# Altium footprint library TL7660CDGKR.PcbLib: 3 footprints
Each footprint in its own frame and in the unit in brackets; x right, y up, seen from the top. Pads: shape width x height; smd on the part's side, far side on the other; paste and mask are expansions set on the pad; w line width, h text height; cw(c..) or ccw(c..) is an arc to the next point about the centre after c.
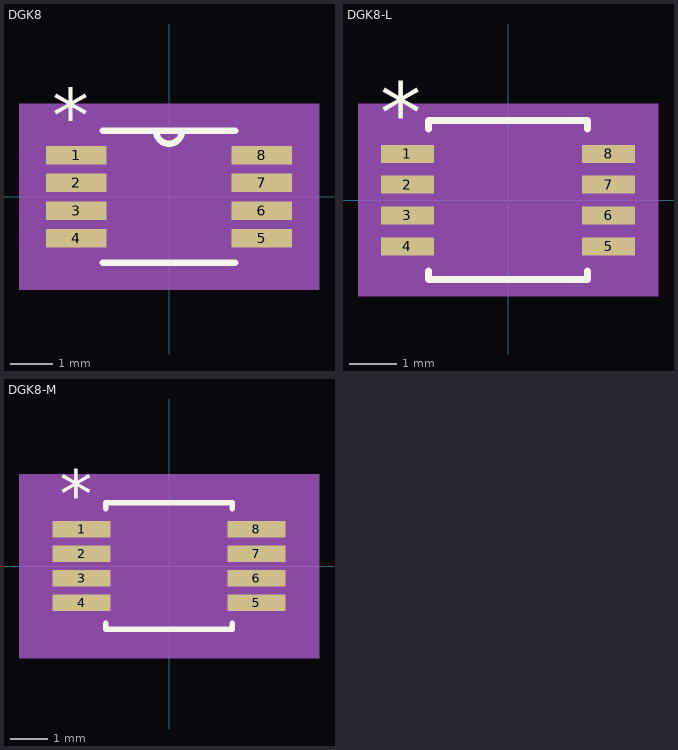
[diagram p0: the footprints below, top view; thin cyan lines are the x and y axes]

## DGK8 [mil]
pads (8):
  rect 56x17 smd: 1(-85.5,38.39) 2(-85.5,12.8) 3(-85.5,-12.8) 4(-85.5,-38.39) 5(85.5,-38.39) 6(85.5,-12.8) 7(85.5,12.8) 8(85.5,38.39)
Top Overlay:
  lines w6: -61,-61 61,-61 ; -61,61 61,61 ; -12,61 ccw(c0,61) 12,61
  text "*" at -108,50.39 h50
Mechanical 5:
  region: 138.5,-86 -138.5,-86 -138.5,86 138.5,86
Mechanical 13:
  lines w0: -12,61 ccw(c0,61) 12,61
  lines w1: -99.5,-45.89 -99.5,-30.89 -61,-30.89 -61,-45.89 -99.5,-45.89 ; -99.5,-20.3 -99.5,-5.3 -61,-5.3 -61,-20.3 -99.5,-20.3 ; -99.5,5.3 -99.5,20.3 -61,20.3 -61,5.3 -99.5,5.3 ; -99.5,30.89 -99.5,45.89 -61,45.89 -61,30.89 -99.5,30.89 ; -61,-61 61,-61 61,61 -61,61 -61,-61 ; 61,-45.89 61,-30.89 99.5,-30.89 99.5,-45.89 61,-45.89 ; 61,-20.3 61,-5.3 99.5,-5.3 99.5,-20.3 61,-20.3 ; 61,5.3 61,20.3 99.5,20.3 99.5,5.3 61,5.3 ; 61,30.89 61,45.89 99.5,45.89 99.5,30.89 61,30.89
  text "*" at -108,50.39 h50
Mechanical 15:
  region: 123.5,-71 -123.5,-71 -123.5,71 123.5,71
  lines w6: -123.5,-71 -123.5,71 123.5,71 123.5,-71 -123.5,-71
3D body "DGK8.step": height 43.11, standoff 0, extent -99.49,-60.98 99.49,60.98

## DGK8-L [mil]
pads (8):
  rect 44x15 smd paste+0 mask+0: 1(-83.5,38.39) 2(-83.5,12.8) 3(-83.5,-12.8) 4(-83.5,-38.39) 5(83.5,-38.39) 6(83.5,-12.8) 7(83.5,12.8) 8(83.5,38.39)
Top Overlay:
  lines w6: -66,-58.99 -66,-66 66,-66 66,-58.99 ; -66,58.99 -66,66 66,66 66,58.99
  text "*" at -106,48.39 h50
Mechanical 5:
  region: 124.5,-80 -124.5,-80 -124.5,80 124.5,80
Mechanical 13:
  lines w0: -12,61 ccw(c0,61) 12,61
  lines w1: -99.5,-45.89 -99.5,-30.89 -61,-30.89 -61,-45.89 -99.5,-45.89 ; -99.5,-20.3 -99.5,-5.3 -61,-5.3 -61,-20.3 -99.5,-20.3 ; -99.5,5.3 -99.5,20.3 -61,20.3 -61,5.3 -99.5,5.3 ; -99.5,30.89 -99.5,45.89 -61,45.89 -61,30.89 -99.5,30.89 ; -61,-61 61,-61 61,61 -61,61 -61,-61 ; 61,-45.89 61,-30.89 99.5,-30.89 99.5,-45.89 61,-45.89 ; 61,-20.3 61,-5.3 99.5,-5.3 99.5,-20.3 61,-20.3 ; 61,5.3 61,20.3 99.5,20.3 99.5,5.3 61,5.3 ; 61,30.89 61,45.89 99.5,45.89 99.5,30.89 61,30.89
  text "*" at -58.5,8 h50
Mechanical 15:
  region: -65,-49.89 -109.5,-49.89 -109.5,49.89 -65,49.89 -65,65 65,65 65,49.89 109.5,49.89 109.5,-49.89 65,-49.89 65,-65 -65,-65
  lines w6: -109.5,-49.89 -109.5,49.89 -65,49.89 -65,65 65,65 65,49.89 109.5,49.89 109.5,-49.89 65,-49.89 65,-65 -65,-65 -65,-49.89 -109.5,-49.89
3D body "DGK8.step": height 43.11, standoff 0, extent -99.49,-60.98 99.49,60.98

## DGK8-M [mil]
pads (8):
  rect 60.5x17 smd paste+0 mask+0: 1(-91.25,38.39) 2(-91.25,12.8) 3(-91.25,-12.8) 4(-91.25,-38.39) 5(91.25,-38.39) 6(91.25,-12.8) 7(91.25,12.8) 8(91.25,38.39)
Top Overlay:
  lines w6: -66,-59.99 -66,-66 66,-66 66,-59.99 ; -66,59.99 -66,66 66,66 66,59.99
  text "*" at -113.75,50.39 h50
Mechanical 5:
  region: 156.5,-96 -156.5,-96 -156.5,96 156.5,96
Mechanical 13:
  lines w0: -12,61 ccw(c0,61) 12,61
  lines w1: -99.5,-45.89 -99.5,-30.89 -61,-30.89 -61,-45.89 -99.5,-45.89 ; -99.5,-20.3 -99.5,-5.3 -61,-5.3 -61,-20.3 -99.5,-20.3 ; -99.5,5.3 -99.5,20.3 -61,20.3 -61,5.3 -99.5,5.3 ; -99.5,30.89 -99.5,45.89 -61,45.89 -61,30.89 -99.5,30.89 ; -61,-61 61,-61 61,61 -61,61 -61,-61 ; 61,-45.89 61,-30.89 99.5,-30.89 99.5,-45.89 61,-45.89 ; 61,-20.3 61,-5.3 99.5,-5.3 99.5,-20.3 61,-20.3 ; 61,5.3 61,20.3 99.5,20.3 99.5,5.3 61,5.3 ; 61,30.89 61,45.89 99.5,45.89 99.5,30.89 61,30.89
  text "*" at -58.5,8 h50
Mechanical 15:
  region: -81,-66.89 -141.5,-66.89 -141.5,66.89 -81,66.89 -81,81 81,81 81,66.89 141.5,66.89 141.5,-66.89 81,-66.89 81,-81 -81,-81
  lines w6: -141.5,-66.89 -141.5,66.89 -81,66.89 -81,81 81,81 81,66.89 141.5,66.89 141.5,-66.89 81,-66.89 81,-81 -81,-81 -81,-66.89 -141.5,-66.89
3D body "DGK8.step": height 43.11, standoff 0, extent -99.49,-60.98 99.49,60.98